# Altium footprint library snowflake.PcbLib: 9 footprints
Each footprint in its own frame and in the unit in brackets; x right, y up, seen from the top. Pads: shape width x height; smd on the part's side, far side on the other; paste and mask are expansions set on the pad; w line width, h text height; cw(c..) or ccw(c..) is an arc to the next point about the centre after c.
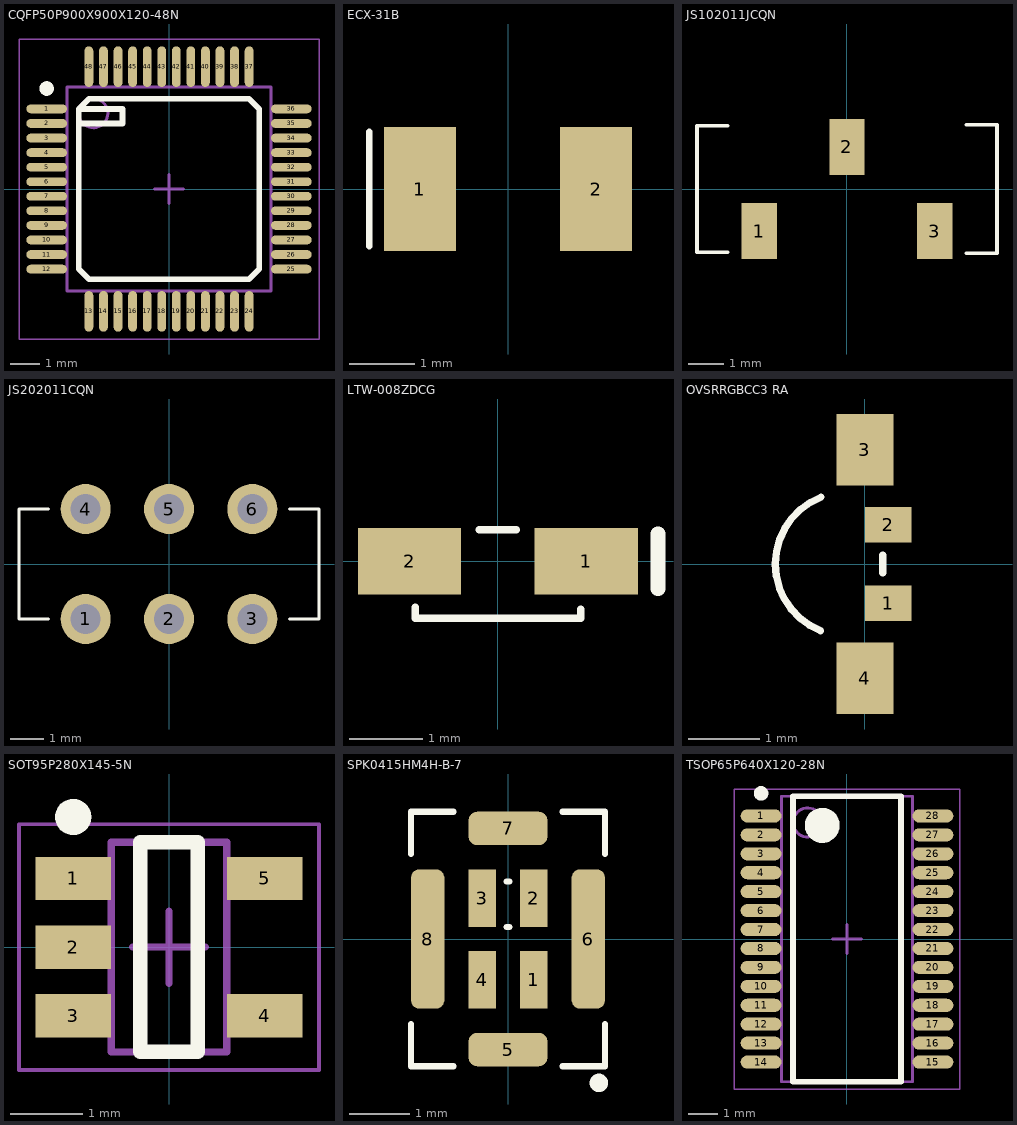
[diagram p0: the footprints below, top view; thin cyan lines are the x and y axes]

## CQFP50P900X900X120-48N [mm] "CQFP, 48-Leads, Body 9.00x9.00mm, Pitch 0.50mm, IPC Medium Density"
height 1.2
pads (48):
  oval 1.4x0.3 smd: 1(-4.2,2.75) 2(-4.2,2.25) 3(-4.2,1.75) 4(-4.2,1.25) 5(-4.2,0.75) 6(-4.2,0.25) 7(-4.2,-0.25) 8(-4.2,-0.75) 9(-4.2,-1.25) 10(-4.2,-1.75) 11(-4.2,-2.25) 12(-4.2,-2.75) 25(4.2,-2.75) 26(4.2,-2.25) 27(4.2,-1.75) 28(4.2,-1.25) 29(4.2,-0.75) 30(4.2,-0.25) 31(4.2,0.25) 32(4.2,0.75) 33(4.2,1.25) 34(4.2,1.75) 35(4.2,2.25) 36(4.2,2.75)
  oval 0.3x1.4 smd: 13(-2.75,-4.2) 14(-2.25,-4.2) 15(-1.75,-4.2) 16(-1.25,-4.2) 17(-0.75,-4.2) 18(-0.25,-4.2) 19(0.25,-4.2) 20(0.75,-4.2) 21(1.25,-4.2) 22(1.75,-4.2) 23(2.25,-4.2) 24(2.75,-4.2) 37(2.75,4.2) 38(2.25,4.2) 39(1.75,4.2) 40(1.25,4.2) 41(0.75,4.2) 42(0.25,4.2) 43(-0.25,4.2) 44(-0.75,4.2) 45(-1.25,4.2) 46(-1.75,4.2) 47(-2.25,4.2) 48(-2.75,4.2)
Top Overlay:
  circle w0.25: c-4.2,3.45 r0.125
  lines w0.2: -3.1,2.25 -1.6,2.25 -1.6,2.75 -3.1,2.75 ; -3.1,2.75 -3.1,-2.75 -2.75,-3.1 2.75,-3.1 3.1,-2.75 3.1,2.75 2.75,3.1 -2.75,3.1 -3.1,2.75
Mechanical 13:
  circle w0.1: c-2.6,2.6 r0.5
  lines w0.1: -3.5,-3.5 -3.5,3.5 3.5,3.5 3.5,-3.5 -3.5,-3.5
Mechanical 15:
  lines w0.05: -5.15,-5.15 -5.15,5.15 5.15,5.15 5.15,-5.15 -5.15,-5.15
  lines w0.1: -0.5,0 0.5,0 ; 0,-0.5 0,0.5
3D body "CQFP50P900X900X120-48N.step": height 1.05, standoff 0, extent -4.5,-4.5 4.5,4.5

## ECX-31B [mm] "XTAL SMD"
pads (2):
  rect 1.1x1.9 smd: 1(-1.35,0) 2(1.35,0)
Top Overlay:
  lines w0.102: -2.125,-0.875 -2.125,0.875
3D body: height 0.9, standoff 0, extent -1.6,-0.75 1.6,0.75

## JS102011JCQN [mm] "SWITCH SLIDE SPDT 300MA 6V"
pads (3):
  rect 1x1.6 smd: 1(-2.5,-1.2) 2(0,1.2) 3(2.5,-1.2)
Top Overlay:
  lines w0.102: -3.4,-1.8 -4.275,-1.8 -4.275,1.8 -3.4,1.8 ; 3.4,-1.825 4.275,-1.825 4.275,1.825 3.4,1.825
3D body: height 5.5, standoff 0, extent -1.5,-0.75 0,0.75
3D body: height 3.5, standoff 0, extent -4.25,-1.8 4.25,1.8

## JS202011CQN [mm] "SWITCH SLIDE DPDT 300MA 6V"
pads (6):
  round 1.5 hole 0.9: 1(-2.5,-1.65) 2(0,-1.65) 3(2.5,-1.65) 4(-2.5,1.65) 5(0,1.65) 6(2.5,1.65)
Top Overlay:
  lines w0.102: -3.625,-1.65 -4.5,-1.65 -4.5,1.65 -3.625,1.65 ; 3.625,-1.65 4.5,-1.65 4.5,1.65 3.625,1.65
3D body: height 5.5, standoff 0, extent -1.5,-0.75 0,0.75
3D body: height 3.5, standoff 0, extent -4.5,-1.65 4.5,1.65

## LTW-008ZDCG [mm] "LED WHITE 2SMD R/A"
pads (2):
  rect 1.4x0.9 smd: 1(1.2,0) 2(-1.2,0)
Top Overlay:
  lines w0.102: -1.125,-0.625 -1.125,-0.775 1.125,-0.775 1.125,-0.65 ; -0.25,0.425 0.25,0.425
  lines w0.2: 2.175,-0.375 2.175,0.375
3D body: height 0.68, standoff 0, extent -1.125,-0.775 1.125,-0.425
3D body: height 0.68, standoff 0, extent -1.2,-0.425 1.2,0.425

## OVSRRGBCC3 RA [mm] "TT elect OVSRRGBCC3 right-angle config"
pads (4):
  rect 0.65x0.5 smd: 1(0.325,-0.55) 2(0.325,0.55)
  rect 0.8x1 smd: 3(0,1.6) 4(0,-1.6)
Top Overlay:
  lines w0.1: -0.619,-0.934 cw(c-0.25,0) -0.614,0.936 ; 0.25,-0.125 0.25,0.125
3D body: height 1, standoff 0, extent -1.253,-1.003 -0.25,1.002
3D body: height 1, standoff 0, extent -0.25,-1.6 0.25,1.6

## SOT95P280X145-5N [mm] "SOT23, 5-Leads, Body 2.90x2.80mm, Pitch 0.95mm, IPC Medium Density"
height 1.45
pads (5):
  rect 1.05x0.6 smd: 1(-1.325,0.95) 2(-1.325,0) 3(-1.325,-0.95) 4(1.325,-0.95) 5(1.325,0.95)
Top Overlay:
  circle w0.25: c-1.325,1.8 r0.125
  lines w0.2: -0.4,-1.45 -0.4,1.45 0.4,1.45 0.4,-1.45 -0.4,-1.45
Mechanical 13:
  lines w0.1: -0.8,-1.45 0.8,-1.45 0.8,1.45 -0.8,1.45 -0.8,-1.45
Mechanical 15:
  lines w0.05: -2.075,-1.7 2.075,-1.7 2.075,1.7 -2.075,1.7 -2.075,-1.7
  lines w0.1: -0.5,0 0.5,0 ; 0,-0.5 0,0.5
3D body "SOT95P280X145-5N.step": height 1.45, standoff 0, extent -1.4,-1.45 1.4,1.45

## SPK0415HM4H-B-7 [mm] "MIC MEMS DIGITAL PDM OMNI -26DB"
pads (8):
  rect 0.45x0.95 smd: 1(0.425,-0.675) 2(0.425,0.675) 3(-0.425,0.675) 4(-0.425,-0.675)
  rrect50% 1.3x0.55 smd: 5(0,-1.825) 7(0,1.825)
  rrect50% 0.55x2.3 smd: 6(1.325,0) 8(-1.325,0)
Top Overlay:
  circle w0.254: c1.5,-2.375 r0.025
  lines w0.102: -1.6,-1.4 -1.6,-2.1 -0.9,-2.1 ; -1.6,1.4 -1.6,2.1 -0.9,2.1 ; -0.025,0.2 0.025,0.2 ; -0.025,0.95 0.025,0.95 ; 0.9,-2.1 1.6,-2.1 1.6,-1.4 ; 0.9,2.1 1.6,2.1 1.6,1.4
3D body: height 1.06, standoff 0, extent -1.5,-2 1.5,2
3D body: height 1.07, standoff 0, extent -0.322,0.251 0.325,0.899

## TSOP65P640X120-28N [mm] "TSOP, 28-Leads, Body 9.70x4.40mm, Pitch 0.65mm, IPC Medium Density"
height 1.2
pads (28):
  oval 1.4x0.45 smd: 1(-2.95,4.225) 2(-2.95,3.575) 3(-2.95,2.925) 4(-2.95,2.275) 5(-2.95,1.625) 6(-2.95,0.975) 7(-2.95,0.325) 8(-2.95,-0.325) 9(-2.95,-0.975) 10(-2.95,-1.625) 11(-2.95,-2.275) 12(-2.95,-2.925) 13(-2.95,-3.575) 14(-2.95,-4.225) 15(2.95,-4.225) 16(2.95,-3.575) 17(2.95,-2.925) 18(2.95,-2.275) 19(2.95,-1.625) 20(2.95,-0.975) 21(2.95,-0.325) 22(2.95,0.325) 23(2.95,0.975) 24(2.95,1.625) 25(2.95,2.275) 26(2.95,2.925) 27(2.95,3.575) 28(2.95,4.225)
Top Overlay:
  circle w0.6: c-0.85,3.9 r0.3
  circle w0.25: c-2.95,5 r0.125
  lines w0.2: -1.85,-4.9 1.85,-4.9 1.85,4.9 -1.85,4.9 -1.85,-4.9
Mechanical 13:
  circle w0.1: c-1.35,4 r0.5
  lines w0.1: -2.25,-4.9 2.25,-4.9 2.25,4.9 -2.25,4.9 -2.25,-4.9
Mechanical 15:
  lines w0.05: -3.875,-5.15 3.875,-5.15 3.875,5.15 -3.875,5.15 -3.875,-5.15
  lines w0.1: -0.5,0 0.5,0 ; 0,-0.5 0,0.5
3D body "TSOP65P640X120-28N.step": height 1.2, standoff 0, extent -3.2,-4.9 3.2,4.9